# Altium schematic symbol library Symbol.SchLib: 38 symbols
Pins are listed as number, name and electrical type; pins without a type are passive.

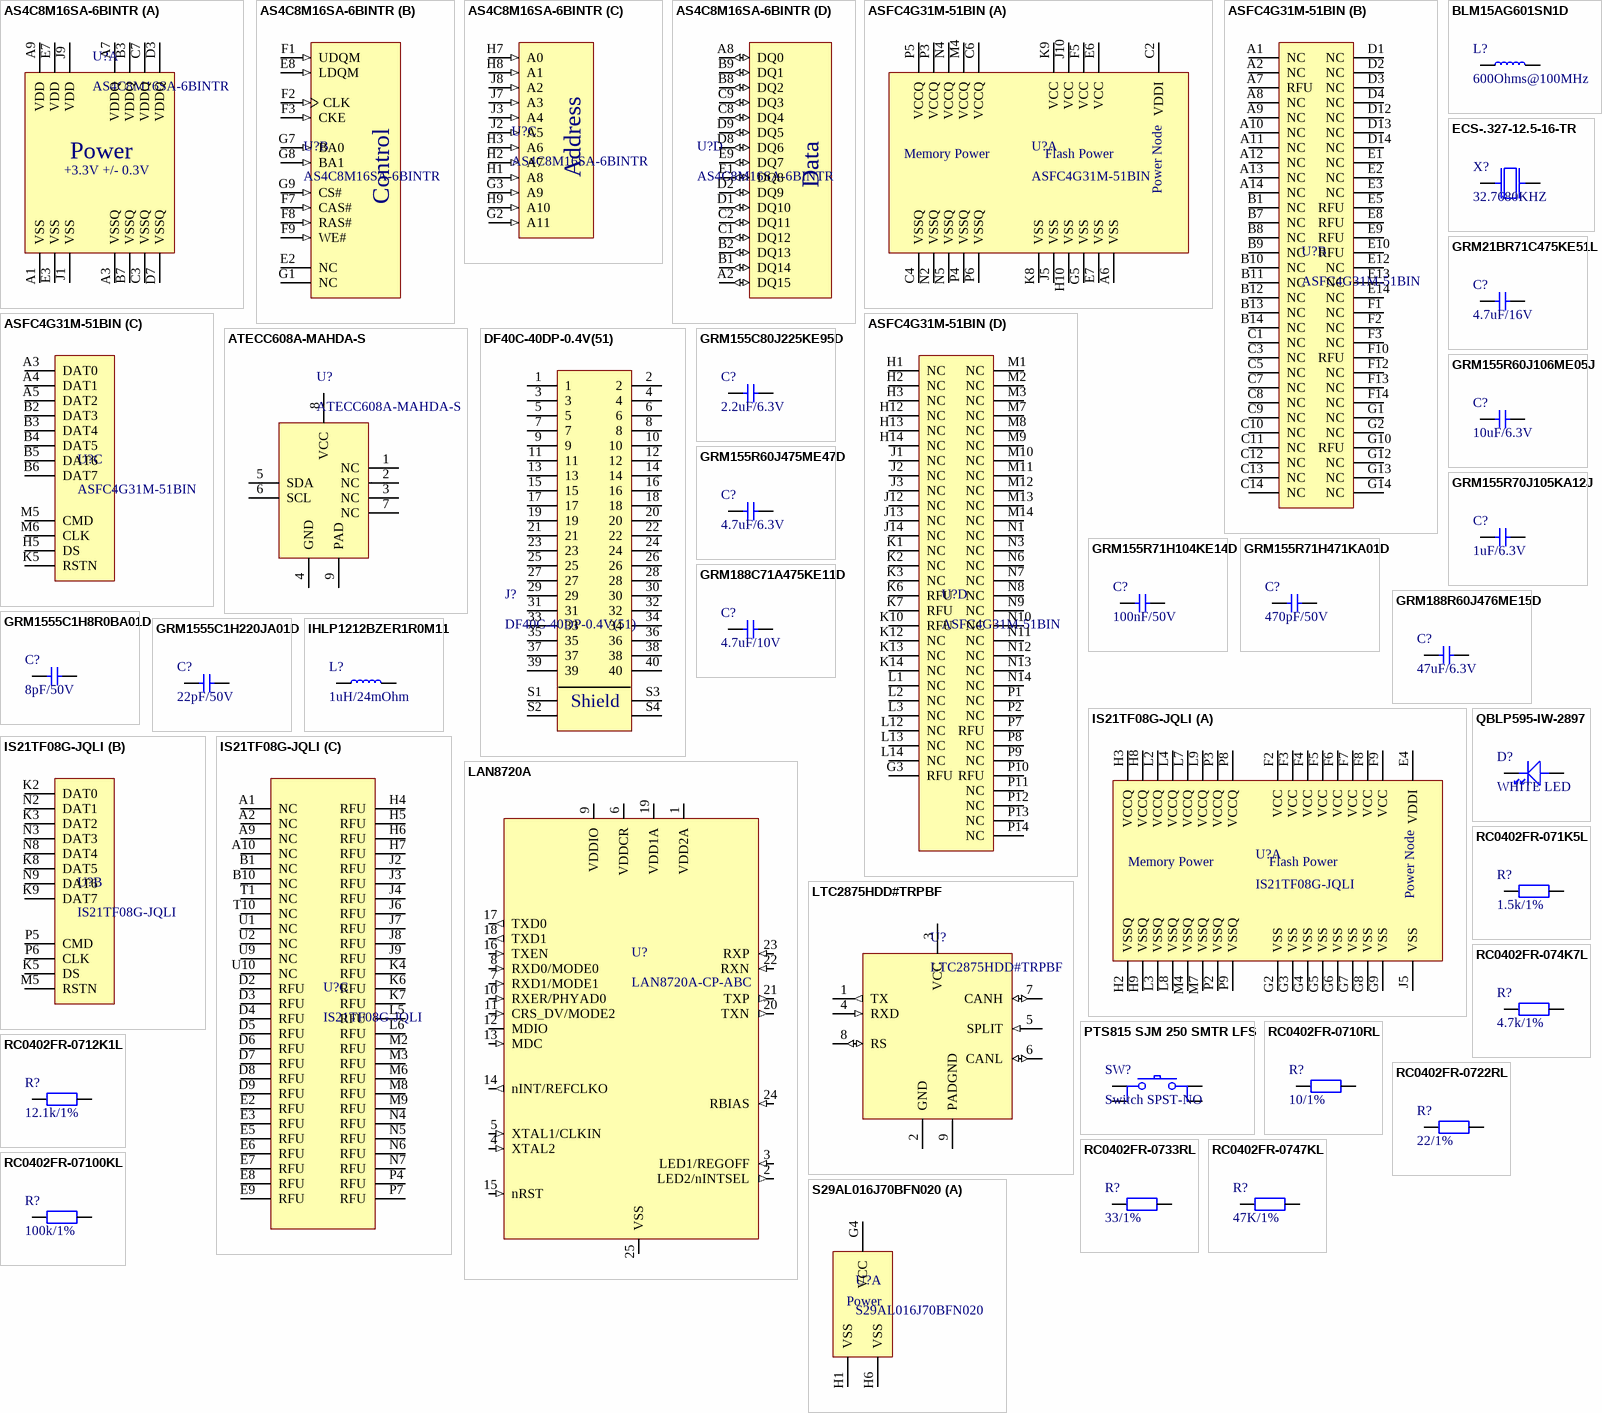
[diagram p0: symbols AS4C8M16SA-6BINTR to S29AL016J70BFN020]

## AS4C8M16SA-6BINTR
designator U?
SDRAM Memory IC 128Mbit Parallel 166 MHz 5 ns 54-TFBGA (8x8); MPN: AS4C8M16SA-6BINTR; ComponentLink1Description: Datasheet; ComponentLink1URL: https://www.alliancememory.com/wp-content/uploads/pdf/dram/128M-AS4C8M16SA.pdf
footprint TFBGA-54
part A pins: A1 VSS (power) "Power Supply Negative", A3 VSSQ (power) "DQ Power Negative", A7 VDDQ (power) "DQ Power Positive", A9 VDD (power) "Power Supply Positive", B3 VDDQ (power) "DQ Power Positive", B7 VSSQ (power) "DQ Power Negative", C3 VSSQ (power) "DQ Power Negative", C7 VDDQ (power) "DQ Power Positive", D3 VDDQ (power) "DQ Power Positive", D7 VSSQ (power) "DQ Power Negative", E3 VSS (power) "Power Supply Negative", E7 VDD (power) "Power Supply Positive", J1 VSS (power) "Power Supply Negative", J9 VDD (power) "Power Supply Positive"
part B pins: E2 NC, E8 LDQM (in) "Data input and output mask.", F1 UDQM (in) "Data input and output mask.", F2 CLK (in) "Clock for SDRAM. Positive edge sampled.", F3 CKE (in) "Activate and deactivate clock signal.", F7 CAS# (in) "Command input.", F8 RAS# (in) "Command input.", F9 WE# (in) "Command input.", G1 NC, G7 BA0 (in) "Bank activate.", G8 BA1 (in) "Bank activate", G9 CS# (in) "Chip select"
part C pins: G2 A11 (in) "Address selection", G3 A9 (in) "Address selection", H1 A8 (in) "Address selection", H2 A7 (in) "Address selection", H3 A6 (in) "Address selection", H7 A0 (in) "Address selection", H8 A1 (in) "Address selection", H9 A10 (in) "Address selection", J2 A5 (in) "Address selection", J3 A4 (in) "Address selection", J7 A3 (in) "Address selection", J8 A2 (in) "Address selection"
part D pins: A2 DQ15 (io) "Data", A8 DQ0 (io) "Data", B1 DQ14 (io) "Data", B2 DQ13 (io) "Data", B8 DQ2 (io) "Data", B9 DQ1 (io) "Data", C1 DQ12 (io) "Data", C2 DQ11 (io) "Data", C8 DQ4 (io) "Data", C9 DQ3 (io) "Data", D1 DQ10 (io) "Data", D2 DQ9 (io) "Data", D8 DQ6 (io) "Data", D9 DQ5 (io) "Data", E1 DQ8 (io) "Data", E9 DQ7 (io) "Data"
part A text: Power; +3.3V +/- 0.3V
part B text: Control
part C text: Address
part D text: Data

## ASFC4G31M-51BIN
designator U?
FLASH - NAND Memory IC 32Gbit MMC 200 MHz 153-FBGA (11.5x13); ComponentLink1Description: Datasheet; ComponentLink1URL: https://www.alliancememory.com/wp-content/uploads/pdf/eMMC/AllianceMemory_4GB_ASFC4G31M-51BIN_eMMCdatasheet_December2021_v1.0.pdf; MPN: ASFC4G31M-51BIN
footprint BGA54C50P14X14_1150X1300X100 (BGA, 54-Leads, Body 11.50x13.00mmx1.00mm, Pitch 0.50mm)
part A pins: A6 VSS (power) "Flash I/O and Memory Ground Connection", C2 VDDI (power) "Internal Power Node", C4 VSSQ (power) "Memory Controller and MMC I/F Ground Connection", C6 VCCQ (power) "Memory Controller and MMC I/F Power Connection", E6 VCC (power) "Flash I/O and Memory Power Supply", E7 VSS (power) "Flash I/O and Memory Ground Connection", F5 VCC (power) "Flash I/O and Memory Power Supply", G5 VSS (power) "Flash I/O and Memory Ground Connection", H10 VSS (power) "Flash I/O and Memory Ground Connection", J5 VSS (power) "Flash I/O and Memory Ground Connection", J10 VCC (power) "Flash I/O and Memory Power Supply", K8 VSS (power) "Flash I/O and Memory Ground Connection", K9 VCC (power) "Flash I/O and Memory Power Supply", M4 VCCQ (power) "Memory Controller and MMC I/F Power Connection", N2 VSSQ (power) "Memory Controller and MMC I/F Ground Connection", N4 VCCQ (power) "Memory Controller and MMC I/F Power Connection", N5 VSSQ (power) "Memory Controller and MMC I/F Ground Connection", P3 VCCQ (power) "Memory Controller and MMC I/F Power Connection", P4 VSSQ (power) "Memory Controller and MMC I/F Ground Connection", P5 VCCQ (power) "Memory Controller and MMC I/F Power Connection", P6 VSSQ (power) "Memory Controller and MMC I/F Ground Connection"
part B pins: A1 NC, A2 NC, A7 RFU, A8 NC, A9 NC, A10 NC, A11 NC, A12 NC, A13 NC, A14 NC, B1 NC, B7 NC, B8 NC, B9 NC, B10 NC, B11 NC, B12 NC, B13 NC, B14 NC, C1 NC, C3 NC, C5 NC, C7 NC, C8 NC, C9 NC, C10 NC, C11 NC, C12 NC, C13 NC, C14 NC, D1 NC, D2 NC, D3 NC, D4 NC, D12 NC, D13 NC, D14 NC, E1 NC, E2 NC, E3 NC, E5 RFU, E8 RFU, E9 RFU, E10 RFU, E12 NC, E13 NC, E14 NC, F1 NC, F2 NC, F3 NC, F10 RFU, F12 NC, F13 NC, F14 NC, G1 NC, G2 NC, G10 RFU, G12 NC, G13 NC, G14 NC
part C pins: A3 DAT0, A4 DAT1, A5 DAT2, B2 DAT3, B3 DAT4, B4 DAT5, B5 DAT6, B6 DAT7, H5 DS, K5 RSTN, M5 CMD, M6 CLK
part D pins: G3 RFU, H1 NC, H2 NC, H3 NC, H12 NC, H13 NC, H14 NC, J1 NC, J2 NC, J3 NC, J12 NC, J13 NC, J14 NC, K1 NC, K2 NC, K3 NC, K6 RFU, K7 RFU, K10 RFU, K12 NC, K13 NC, K14 NC, L1 NC, L2 NC, L3 NC, L12 NC, L13 NC, L14 NC, M1 NC, M2 NC, M3 NC, M7 NC, M8 NC, M9 NC, M10 NC, M11 NC, M12 NC, M13 NC, M14 NC, N1 NC, N3 NC, N6 NC, N7 NC, N8 NC, N9 NC, N10 NC, N11 NC, N12 NC, N13 NC, N14 NC, P1 NC, P2 NC, P7 RFU, P8 NC, P9 NC, P10 RFU, P11 NC, P12 NC, P13 NC, P14 NC
part A text: Memory Power; Flash Power; Power Node

## ATECC608A-MAHDA-S
designator U?
Authentication Chip 8-UDFN (2x3); MPN: ATECC608A-MAHDA-S; ComponentLink1Description: Datasheet; ComponentLink1URL: https://ww1.microchip.com/downloads/en/DeviceDoc/ATECC608A-CryptoAuthentication-Device-Summary-Data-Sheet-DS40001977B.pdf
footprint SON50P200X60_HS-9N (SON, 8-Leads, Body 3.00x2.00mm, Pitch 0.50mm, Thermal Pad 1.50x0.68mm, IPC Medium Density)
pins: 1 NC, 2 NC, 3 NC, 4 GND, 5 SDA, 6 SCL, 7 NC, 8 VCC, 9 PAD

## BLM15AG601SN1D
designator L?, comment 600Ohms@100MHz
600 Ohms @ 100 MHz 1 Ferrite Bead 0402 (1005 Metric) 300mA 520mOhm; MPN: BLM15AG601SN1D; ComponentLink1Description: Datasheet; ComponentLink1URL: https://www.murata.com/en-us/products/productdata/8796740059166/ENFA0018.pdf
footprint INDC1005X06M-0402 (Chip Inductor, 2-Leads, Body 1.00x0.50mm, IPC Low Density)
pins: 1, 2

## DF40C-40DP-0.4V(51)
designator J?
40 Position Connector Plug, Outer Shroud Contacts Surface Mount Gold; MPN: DF40C-40DP-0.4V(51); ComponentLink1Description: Datasheet; ComponentLink1URL: https://www.hirose.com/en/product/document?clcode=&productname=&series=DF40&documenttype=Catalog&lang=en&documentid=en_DF40_CAT
footprint DF40C-40DP-0.4V(51)
pins: 1, 2, 3, 4, 5, 6, 7, 8, 9, 10, 11, 12, 13, 14, 15, 16, 17, 18, 19, 20, 21, 22, 23, 24, 25, 26, 27, 28, 29, 30, 31, 32, 33, 34, 35, 36, 37, 38, 39, 40, S1, S2, S3, S4
text: Shield

## ECS-.327-12.5-16-TR
designator X?, comment 32.7680KHZ
32.768 kHz ±20ppm Crystal 12.5pF 90 kOhms 2-SMD, No Lead; MPN: ECS-.327-12.5-16-TR; ComponentLink1Description: Datasheet; ComponentLink1URL: https://ecsxtal.com/store/pdf/ECX-16.pdf
footprint 2-SMD
pins: 1, 2

## GRM21BR71C475KE51L
designator C?, comment 4.7uF/16V
4.7 µF ±10% 16V Ceramic Capacitor X7R 0805 (2012 Metric); MPN: GRM21BR71C475KE51L; ComponentLink1Description: Datasheet; ComponentLink1URL: https://search.murata.co.jp/Ceramy/image/img/A01X/G101/ENG/GRM21BR71C475KE51-01.pdf
footprint CAPC2012X14M (Chip Capacitor, 2-Leads, Body 2.00x1.25mm, IPC Low Density)
pins: 1, 2

## GRM155C80J225KE95D
designator C?, comment 2.2uF/6.3V
2.2 µF ±10% 6.3V Ceramic Capacitor X6S 0402 (1005 Metric); MPN: GRM155C80J225KE95D; ComponentLink1Description: Datasheet; ComponentLink1URL: https://search.murata.co.jp/Ceramy/image/img/A01X/G101/ENG/GRM155R60J475ME47-01.pdf
footprint CAPC1005X06M-0402 (Chip Capacitor, 2-Leads, Body 1.00x0.50mm, IPC Low Density)
pins: 1, 2

## GRM155R60J106ME05J
designator C?, comment 10uF/6.3V
10 µF ±20% 6.3V Ceramic Capacitor X5R 0402 (1005 Metric); MPN: GRM155R60J106ME05J; ComponentLink1Description: Datasheet; ComponentLink1URL: https://search.murata.co.jp/Ceramy/image/img/A01X/G101/ENG/GRM155R60J106ME05-01A.pdf
footprint CAPC1005X06M-0402 (Chip Capacitor, 2-Leads, Body 1.00x0.50mm, IPC Low Density)
pins: 1, 2

## GRM155R60J475ME47D
designator C?, comment 4.7uF/6.3V
4.7 µF ±20% 6.3V Ceramic Capacitor X5R 0402 (1005 Metric); MPN: GRM155R60J475ME47D; ComponentLink1Description: Datasheet; ComponentLink1URL: https://search.murata.co.jp/Ceramy/image/img/A01X/G101/ENG/GRM155R60J475ME47-01.pdf
footprint CAPC1005X06M-0402 (Chip Capacitor, 2-Leads, Body 1.00x0.50mm, IPC Low Density)
pins: 1, 2

## GRM155R70J105KA12J
designator C?, comment 1uF/6.3V
1 µF ±10% 6.3V Ceramic Capacitor X7R 0402 (1005 Metric); MPN: GRM155R70J105KA12J; ComponentLink1Description: Datasheet; ComponentLink1URL: https://search.murata.co.jp/Ceramy/image/img/A01X/G101/ENG/GRM155R60J475ME47-01.pdf
footprint CAPC1005X06M-0402 (Chip Capacitor, 2-Leads, Body 1.00x0.50mm, IPC Low Density)
pins: 1, 2

## GRM155R71H104KE14D
designator C?, comment 100nF/50V
0.1 µF ±10% 50V Ceramic Capacitor X7R 0402 (1005 Metric); MPN: GRM155R71H104KE14D; ComponentLink1Description: Datasheet; ComponentLink1URL: https://search.murata.co.jp/Ceramy/image/img/A01X/G101/ENG/GRM155R60J475ME47-01.pdf
footprint CAPC1005X06M-0402 (Chip Capacitor, 2-Leads, Body 1.00x0.50mm, IPC Low Density)
pins: 1, 2

## GRM155R71H471KA01D
designator C?, comment 470pF/50V
470 pF ±10% 50V Ceramic Capacitor X7R 0402 (1005 Metric); MPN: GRM155R71H471KA01D; ComponentLink1Description: Datasheet; ComponentLink1URL: https://search.murata.co.jp/Ceramy/image/img/A01X/G101/ENG/GRM155R60J475ME47-01.pdf
footprint CAPC1005X06M-0402 (Chip Capacitor, 2-Leads, Body 1.00x0.50mm, IPC Low Density)
pins: 1, 2

## GRM188C71A475KE11D
designator C?, comment 4.7uF/10V
4.7 µF ±10% 10V Ceramic Capacitor X7S 0603 (1608 Metric); MPN: GRM188C71A475KE11D; ComponentLink1Description: Datasheet; ComponentLink1URL: https://search.murata.co.jp/Ceramy/image/img/A01X/G101/ENG/GRM188R60J476ME15-01.pdf
footprint CAPC1608X10M-0603 (Chip Capacitor, 2-Leads, Body 1.60x0.80mm, IPC Low Density)
pins: 1, 2

## GRM188R60J476ME15D
designator C?, comment 47uF/6.3V
47 µF ±20% 6.3V Ceramic Capacitor X5R 0603 (1608 Metric); MPN: GRM188R60J476ME15D; ComponentLink1Description: Datasheet; ComponentLink1URL: https://search.murata.co.jp/Ceramy/image/img/A01X/G101/ENG/GRM188R60J476ME15-01.pdf
footprint CAPC1608X10M-0603 (Chip Capacitor, 2-Leads, Body 1.60x0.80mm, IPC Low Density)
pins: 1, 2

## GRM1555C1H8R0BA01D
designator C?, comment 8pF/50V
8 pF ±0.1pF 50V Ceramic Capacitor C0G, NP0 0402 (1005 Metric); MPN: GRM1555C1H8R0BA01D; ComponentLink1Description: Datasheet; ComponentLink1URL: https://search.murata.co.jp/Ceramy/image/img/A01X/G101/ENG/GRM155R60J475ME47-01.pdf
footprint CAPC1005X06M-0402 (Chip Capacitor, 2-Leads, Body 1.00x0.50mm, IPC Low Density)
pins: 1, 2

## GRM1555C1H220JA01D
designator C?, comment 22pF/50V
22 pF ±5% 50V Ceramic Capacitor C0G, NP0 0402 (1005 Metric); MPN: GRM1555C1H220JA01D; ComponentLink1Description: Datasheet; ComponentLink1URL: https://search.murata.co.jp/Ceramy/image/img/A01X/G101/ENG/GRM155R60J475ME47-01.pdf
footprint CAPC1005X06M-0402 (Chip Capacitor, 2-Leads, Body 1.00x0.50mm, IPC Low Density)
pins: 1, 2

## IHLP1212BZER1R0M11
designator L?, comment 1uH/24mOhm
1 µH Shielded Molded Inductor 5 A 24mOhm Max Nonstandard; MPN: IHLP1212BZER1R0M11; ComponentLink1Description: Datasheet; ComponentLink1URL: https://www.vishay.com/docs/34289/lp12bz11.pdf
footprint INDP3030X20M (Precision Wire Wound Inductor, 2-Leads, Body 3.00x3.00mm, IPC Low Density)
pins: 1, 2

## IS21TF08G-JQLI
designator U?
FLASH - NAND (TLC) Memory IC 64Gbit MMC 200 MHz 100-LFBGA (14x18); ComponentLink1Description: Datasheet; ComponentLink1URL: https://www.issi.com/WW/pdf/21-22TF08G.pdf; MPN: IS21TF08G-JQLI
footprint BGA180C100P10X18_1400X1400X140 (BGA, 180-Leads, Body 14.00x14.00mmx1.40mm, Pitch 1.00mm)
part A pins: E4 VDDI (power) "Internal Power Node", F2 VCC (power) "Flash I/O and Memory Power Supply", F3 VCC (power) "Flash I/O and Memory Power Supply", F4 VCC (power) "Flash I/O and Memory Power Supply", F5 VCC (power) "Flash I/O and Memory Power Supply", F6 VCC (power) "Flash I/O and Memory Power Supply", F7 VCC (power) "Flash I/O and Memory Power Supply", F8 VCC (power) "Flash I/O and Memory Power Supply", F9 VCC (power) "Flash I/O and Memory Power Supply", G2 VSS (power) "Flash I/O and Memory Ground Connection", G3 VSS (power) "Flash I/O and Memory Ground Connection", G4 VSS (power) "Flash I/O and Memory Ground Connection", G5 VSS (power) "Flash I/O and Memory Ground Connection", G6 VSS (power) "Flash I/O and Memory Ground Connection", G7 VSS (power) "Flash I/O and Memory Ground Connection", G8 VSS (power) "Flash I/O and Memory Ground Connection", G9 VSS (power) "Flash I/O and Memory Ground Connection", H2 VSSQ (power) "Memory Controller and MMC I/F Ground Connection", H3 VCCQ (power) "Memory Controller and MMC I/F Power Connection", H8 VCCQ (power) "Memory Controller and MMC I/F Power Connection", H9 VSSQ (power) "Memory Controller and MMC I/F Ground Connection", J5 VSS (power) "Flash I/O and Memory Ground Connection", L2 VCCQ (power) "Memory Controller and MMC I/F Power Connection", L3 VSSQ (power) "Memory Controller and MMC I/F Ground Connection", L4 VCCQ (power) "Memory Controller and MMC I/F Power Connection", L7 VCCQ (power) "Memory Controller and MMC I/F Power Connection", L8 VSSQ (power) "Memory Controller and MMC I/F Ground Connection", L9 VCCQ (power) "Memory Controller and MMC I/F Power Connection", M4 VSSQ (power) "Memory Controller and MMC I/F Ground Connection", M7 VSSQ (power) "Memory Controller and MMC I/F Ground Connection", P2 VSSQ (power) "Memory Controller and MMC I/F Ground Connection", P3 VCCQ (power) "Memory Controller and MMC I/F Power Connection", P8 VCCQ (power) "Memory Controller and MMC I/F Power Connection", P9 VSSQ (power) "Memory Controller and MMC I/F Ground Connection"
part B pins: K2 DAT0, K3 DAT2, K5 DS, K8 DAT5, K9 DAT7, M5 RSTN, N2 DAT1, N3 DAT3, N8 DAT4, N9 DAT6, P5 CMD, P6 CLK
part C pins: A1 NC, A2 NC, A9 NC, A10 NC, B1 NC, B10 NC, D2 RFU, D3 RFU, D4 RFU, D5 RFU, D6 RFU, D7 RFU, D8 RFU, D9 RFU, E2 RFU, E3 RFU, E5 RFU, E6 RFU, E7 RFU, E8 RFU, E9 RFU, H4 RFU, H5 RFU, H6 RFU, H7 RFU, J2 RFU, J3 RFU, J4 RFU, J6 RFU, J7 RFU, J8 RFU, J9 RFU, K4 RFU, K6 RFU, K7 RFU, L5 RFU, L6 RFU, M2 RFU, M3 RFU, M6 RFU, M8 RFU, M9 RFU, N4 RFU, N5 RFU, N6 RFU, N7 RFU, P4 RFU, P7 RFU, T1 NC, T10 NC, U1 NC, U2 NC, U9 NC, U10 NC
part A text: Memory Power; Flash Power; Power Node

## LAN8720A
designator U?, comment LAN8720A-CP-ABC
2/2 Transceiver Full RMII 24-SQFN (4x4); MPN: LAN8720A-CP-ABC; ComponentLink1Description: Datasheet; ComponentLink1URL: https://ww1.microchip.com/downloads/aemDocuments/documents/OTH/ProductDocuments/DataSheets/00002165B.pdf
footprint QFN24P50_40X40X85L40X25
pins: 1 VDD2A (power), 2 LED2/nINTSEL (out), 3 LED1/REGOFF (in), 4 XTAL2 (in), 5 XTAL1/CLKIN (in), 6 VDDCR (power), 7 RXD1/MODE1 (in), 8 RXD0/MODE0 (in), 9 VDDIO (power), 10 RXER/PHYAD0 (in), 11 CRS_DV/MODE2 (in), 12 MDIO (io), 13 MDC (in), 14 nINT/REFCLKO (out), 15 nRST (in), 16 TXEN (in), 17 TXD0 (out), 18 TXD1 (out), 19 VDD1A (power), 20 TXN (out), 21 TXP (out), 22 RXN (in), 23 RXP (in), 24 RBIAS (in), 25 VSS (power)

## LTC2875HDD#TRPBF
designator U?
1/1 Transceiver CANbus 8-DFN (3x3); MPN: LTC2875HDD#TRPBF; ComponentLink1Description: Datasheet; ComponentLink1URL: https://www.analog.com/media/en/technical-documentation/data-sheets/LTC2875.pdf
footprint DFN-8
pins: 1 TX (out), 2 GND (power), 3 VCC (power), 4 RXD (in), 5 SPLIT (in), 6 CANL (io), 7 CANH (io), 8 RS (io), 9 PADGND (power)

## PTS815 SJM 250 SMTR LFS
designator SW?, comment Switch SPST-NO
Tactile Switch SPST-NO Top Actuated Surface Mount; MPN: PTS815 SJM 250 SMTR LFS; ComponentLink1Description: Datasheet; ComponentLink1URL: https://www.ckswitches.com/media/2728/pts815.pdf
footprint PTS815 SJM 250 SMTR LFS
pins: 1, 2, 3, 4

## QBLP595-IW-2897
designator D?, comment WHITE LED
White LED Indication - Discrete 3.1V 0402 (1005 Metric); MPN: QBLP595-IW-2897; ComponentLink1Description: Datasheet; ComponentLink1URL: https://www.qt-brightek.com/datasheet/QBLP595-IW-2897.pdf
footprint LED-0402
pins: 1, 2

## RC0402FR-071K5L
designator R?, comment 1.5k/1%
1.5 kOhms ±1% 0.063W, 1/16W Chip Resistor 0402 (1005 Metric) Moisture Resistant Thick Film; MPN: RC0402FR-071K5L; ComponentLink1Description: Datasheet; ComponentLink1URL: https://www.yageo.com/upload/media/product/productsearch/datasheet/rchip/PYu-RC_Group_51_RoHS_L_12.pdf
footprint RESC1005X04M-0402 (Chip Resistor, 2-Leads, Body 1.00x0.50mm, IPC Low Density)
pins: 1, 2

## RC0402FR-074K7L
designator R?, comment 4.7k/1%
4.7 kOhms ±1% 0.063W, 1/16W Chip Resistor 0402 (1005 Metric) Moisture Resistant Thick Film; MPN: RC0402FR-074K7L; ComponentLink1Description: Datasheet; ComponentLink1URL: https://www.yageo.com/upload/media/product/productsearch/datasheet/rchip/PYu-RC_Group_51_RoHS_L_12.pdf
footprint RESC1005X04M-0402 (Chip Resistor, 2-Leads, Body 1.00x0.50mm, IPC Low Density)
pins: 1, 2

## RC0402FR-0710RL
designator R?, comment 10/1%
10 Ohms ±1% 0.063W, 1/16W Chip Resistor 0402 (1005 Metric) Moisture Resistant Thick Film; MPN: RC0402FR-0710RL; ComponentLink1Description: Datasheet; ComponentLink1URL: https://www.yageo.com/upload/media/product/productsearch/datasheet/rchip/PYu-RC_Group_51_RoHS_L_12.pdf
footprint RESC1005X04M-0402 (Chip Resistor, 2-Leads, Body 1.00x0.50mm, IPC Low Density)
pins: 1, 2

## RC0402FR-0712K1L
designator R?, comment 12.1k/1%
12.1 kOhms ±1% 0.063W, 1/16W Chip Resistor 0402 (1005 Metric) Moisture Resistant Thick Film; MPN: RC0402FR-0712K1L; ComponentLink1Description: Datasheet; ComponentLink1URL: https://www.yageo.com/upload/media/product/productsearch/datasheet/rchip/PYu-RC_Group_51_RoHS_L_12.pdf
footprint RESC1005X04M-0402 (Chip Resistor, 2-Leads, Body 1.00x0.50mm, IPC Low Density)
pins: 1, 2

## RC0402FR-0722RL
designator R?, comment 22/1%
22 Ohms ±1% 0.063W, 1/16W Chip Resistor 0402 (1005 Metric) Moisture Resistant Thick Film; MPN: RC0402FR-0722RL; ComponentLink1Description: Datasheet; ComponentLink1URL: https://www.yageo.com/upload/media/product/productsearch/datasheet/rchip/PYu-RC_Group_51_RoHS_L_12.pdf
footprint RESC1005X04M-0402 (Chip Resistor, 2-Leads, Body 1.00x0.50mm, IPC Low Density)
pins: 1, 2

## RC0402FR-0733RL
designator R?, comment 33/1%
33 Ohms ±1% 0.063W, 1/16W Chip Resistor 0402 (1005 Metric) Moisture Resistant Thick Film; MPN: RC0402FR-0733RL; ComponentLink1Description: Datasheet; ComponentLink1URL: https://www.yageo.com/upload/media/product/productsearch/datasheet/rchip/PYu-RC_Group_51_RoHS_L_12.pdf
footprint RESC1005X04M-0402 (Chip Resistor, 2-Leads, Body 1.00x0.50mm, IPC Low Density)
pins: 1, 2

## RC0402FR-0747KL
designator R?, comment 47K/1%
47 kOhms ±1% 0.063W, 1/16W Chip Resistor 0402 (1005 Metric) Moisture Resistant Thick Film; MPN: RC0402FR-0747KL; ComponentLink1Description: Datasheet; ComponentLink1URL: https://www.yageo.com/upload/media/product/productsearch/datasheet/rchip/PYu-RC_Group_51_RoHS_L_12.pdf
footprint RESC1005X04M-0402 (Chip Resistor, 2-Leads, Body 1.00x0.50mm, IPC Low Density)
pins: 1, 2

## RC0402FR-07100KL
designator R?, comment 100k/1%
100 kOhms ±1% 0.063W, 1/16W Chip Resistor 0402 (1005 Metric) Moisture Resistant Thick Film; MPN: RC0402FR-07100KL; ComponentLink1Description: Datasheet; ComponentLink1URL: https://www.yageo.com/upload/media/product/productsearch/datasheet/rchip/PYu-RC_Group_51_RoHS_L_12.pdf
footprint RESC1005X04M-0402 (Chip Resistor, 2-Leads, Body 1.00x0.50mm, IPC Low Density)
pins: 1, 2

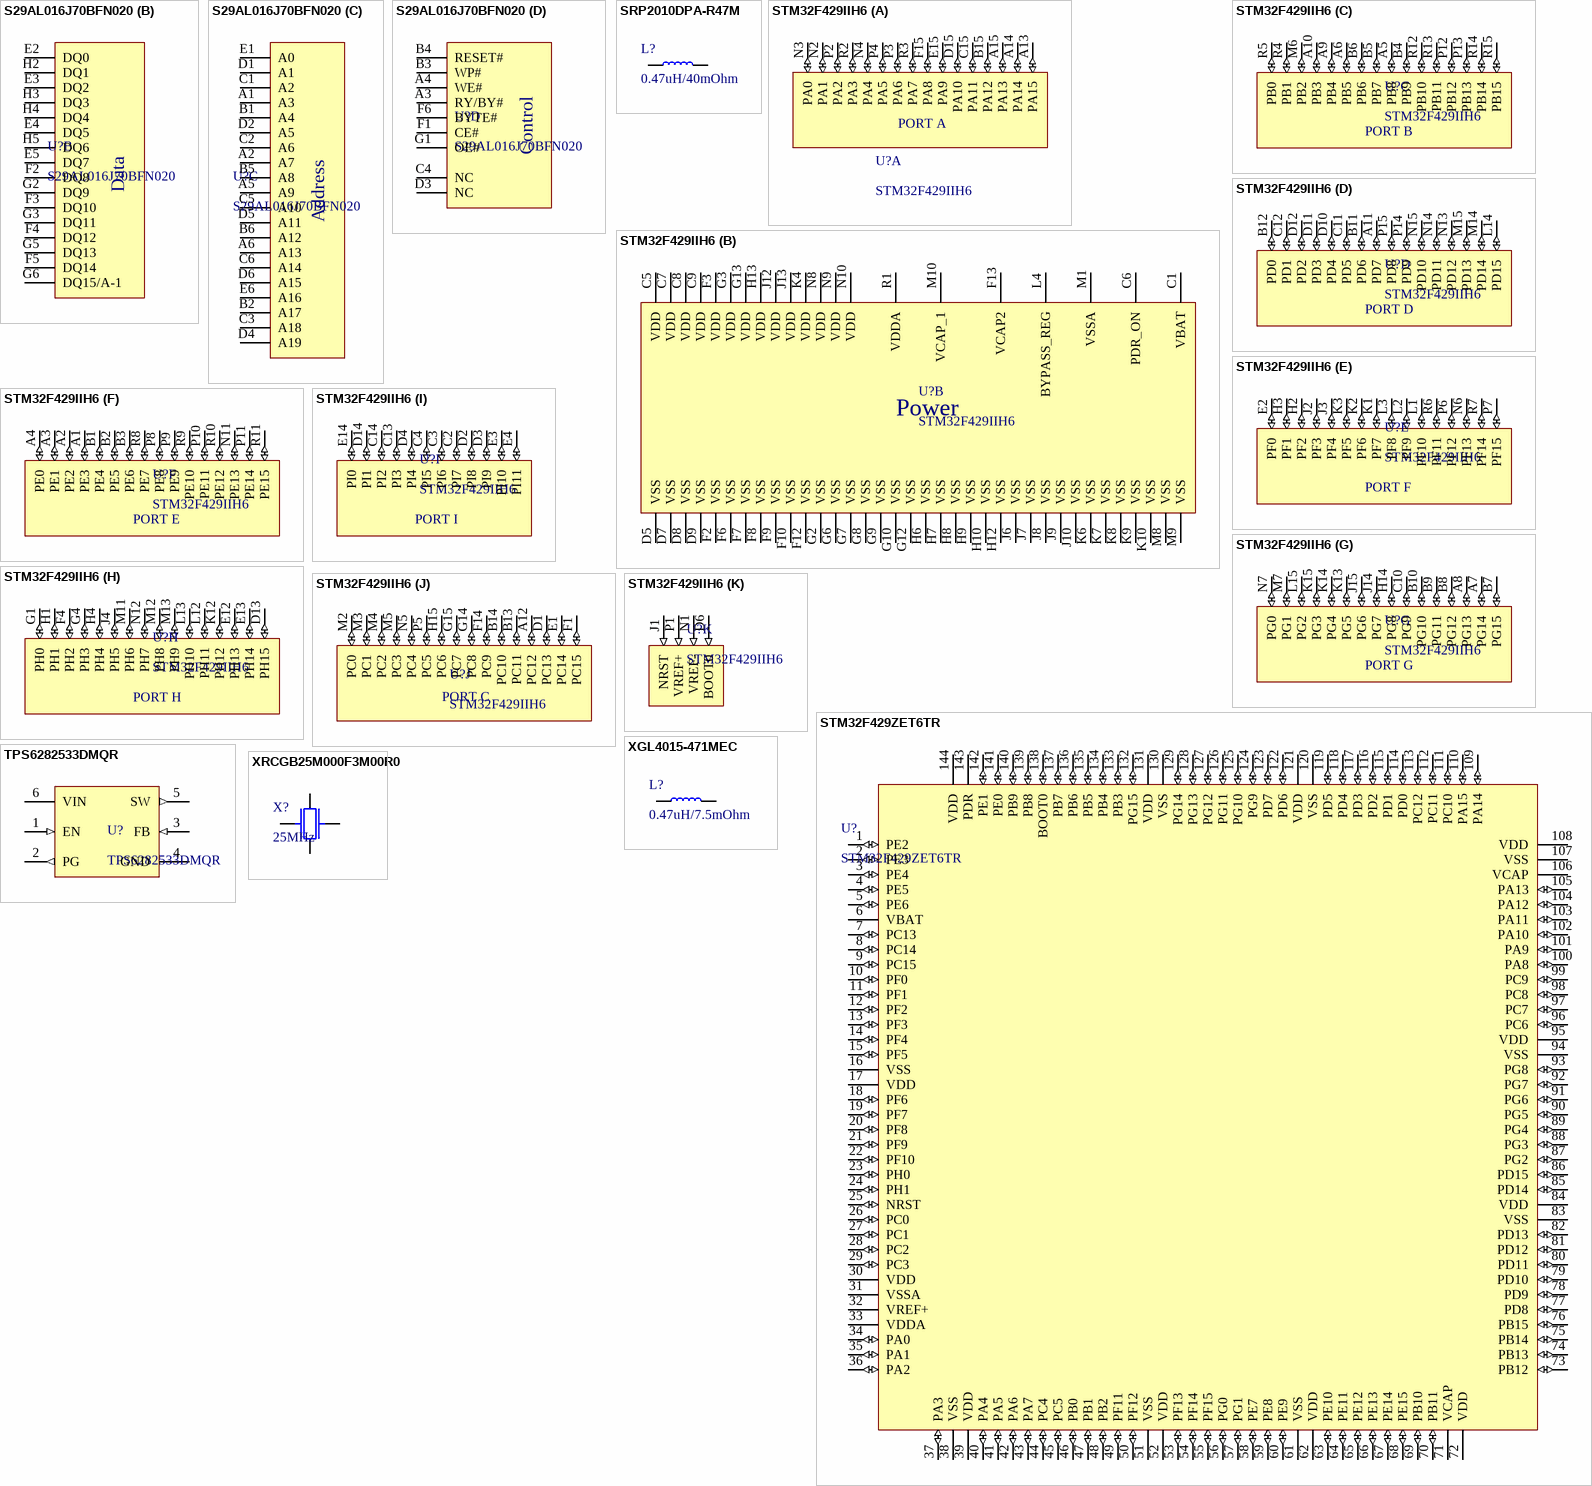
[diagram p1: symbols S29AL016J70BFN020 to XRCGB25M000F3M00R0]

## S29AL016J70BFN020
designator U?
FLASH - NOR Memory IC 16Mbit Parallel 70 ns 48-FBGA (8.15x6.15); MPN: S29AL016J70BFN020; ComponentLink1Description: Datasheet; ComponentLink1URL: https://www.infineon.com/dgdl/Infineon-S29AL016J_16_MBIT_(2M_X_8_BIT_1M_X_16_BIT)_3_V_BOOT_SECTOR_FLASH-DataSheet-v18_00-EN.pdf?fileId=8ac78c8c7d0d8da4017d0ed709c05803
footprint BGA48C80P6X8_615X815X100 (BGA, 48-Leads, Body 6.15x8.15mmx1.00mm, Pitch 0.80mm)
part A pins: G4 VCC, H1 VSS, H6 VSS
part B pins: E2 DQ0, E3 DQ2, E4 DQ5, E5 DQ7, F2 DQ8, F3 DQ10, F4 DQ12, F5 DQ14, G2 DQ9, G3 DQ11, G5 DQ13, G6 DQ15/A-1, H2 DQ1, H3 DQ3, H4 DQ4, H5 DQ6
part C pins: A1 A3, A2 A7, A5 A9, A6 A13, B1 A4, B2 A17, B5 A8, B6 A12, C1 A2, C2 A6, C3 A18, C5 A10, C6 A14, D1 A1, D2 A5, D4 A19, D5 A11, D6 A15, E1 A0, E6 A16
part D pins: A3 RY/BY#, A4 WE#, B3 WP#, B4 RESET#, C4 NC, D3 NC, F1 CE#, F6 BYTE#, G1 OE#
part A text: Power
part B text: Data
part C text: Address
part D text: Control

## SRP2010DPA-R47M
designator L?, comment 0.47uH/40mOhm
470 nH Shielded Inductor 3.6 A 40mOhm Max 0806 (2016 Metric); MPN: SRP2010DPA-R47M; ComponentLink1Description: Datasheet; ComponentLink1URL: https://media.digikey.com/pdf/Data%20Sheets/Bourns%20PDFs/SRP2010DPA_Series_DS.pdf
footprint INDC200x160-2016
pins: 1, 2

## STM32F429IIH6
designator U?
ARM Microcontrollers - MCU DSP FPU ARM CortexM4 2Mb Flash 180MHz; ComponentLink1Description: Datasheet; ComponentLink1URL: https://eu.mouser.com/datasheet/2/389/stm32f427vg-1760963.pdf; MPN: STM32F429IIH6
footprint BGA201C65P15X15_1000X1000X60
part A pins: A13 PA15 (io), A14 PA14 (io), A15 PA13 (io), B15 PA12 (io), C15 PA11 (io), D15 PA10 (io), E15 PA9 (io), F15 PA8 (io), N2 PA1 (io), N3 PA0 (io), N4 PA4 (io), P2 PA2 (io), P3 PA6 (io), P4 PA5 (io), R2 PA3 (io), R3 PA7 (io)
part B pins: C1 VBAT (power), C5 VDD (power), C6 PDR_ON (power), C7 VDD (power), C8 VDD (power), C9 VDD (power), D5 VSS (power), D7 VSS (power), D8 VSS (power), D9 VSS (power), F2 VSS (power), F3 VDD (power), F6 VSS (power), F7 VSS (power), F8 VSS (power), F9 VSS (power), F10 VSS (power), F12 VSS (power), F13 VCAP2 (power), G2 VSS (power), G3 VDD (power), G6 VSS (power), G7 VSS (power), G8 VSS (power), G9 VSS (power), G10 VSS (power), G12 VSS (power), G13 VDD (power), H6 VSS (power), H7 VSS (power), H8 VSS (power), H9 VSS (power), H10 VSS (power), H12 VSS (power), H13 VDD (power), J6 VSS (power), J7 VSS (power), J8 VSS (power), J9 VSS (power), J10 VSS (power), J12 VDD (power), J13 VDD (power), K4 VDD (power), K6 VSS (power), K7 VSS (power), K8 VSS (power), K9 VSS (power), K10 VSS (power), L4 BYPASS_REG (power), M1 VSSA (power), M8 VSS (power), M9 VSS (power), M10 VCAP_1 (power), N8 VDD (power), N9 VDD (power), N10 VDD (power), R1 VDDA (power)
part C pins: A5 PB8 (io), A6 PB5 (io), A9 PB4 (io), A10 PB3 (io), B4 PB9 (io), B5 PB7 (io), B6 PB6 (io), M6 PB2 (io), P12 PB12 (io), P13 PB13 (io), R4 PB1 (io), R5 PB0 (io), R12 PB10 (io), R13 PB11 (io), R14 PB14 (io), R15 PB15 (io)
part D pins: A11 PD7 (io), B11 PD6 (io), B12 PD0 (io), C11 PD5 (io), C12 PD1 (io), D10 PD4 (io), D11 PD3 (io), D12 PD2 (io), L14 PD15 (io), M14 PD14 (io), M15 PD13 (io), N13 PD12 (io), N14 PD11 (io), N15 PD10 (io), P14 PD9 (io), P15 PD8 (io)
part E pins: E2 PF0 (io), H2 PF2 (io), H3 PF1 (io), J2 PF3 (io), J3 PF4 (io), K1 PF7 (io), K2 PF6 (io), K3 PF5 (io), L1 PF10 (io), L2 PF9 (io), L3 PF8 (io), N6 PF13 (io), P6 PF12 (io), P7 PF15 (io), R6 PF11 (io), R7 PF14 (io)
part F pins: A1 PE3 (io), A2 PE2 (io), A3 PE1 (io), A4 PE0 (io), B1 PE4 (io), B2 PE5 (io), B3 PE6 (io), N11 PE13 (io), P8 PE8 (io), P9 PE9 (io), P10 PE11 (io), P11 PE14 (io), R8 PE7 (io), R9 PE10 (io), R10 PE12 (io), R11 PE15 (io)
part G pins: A7 PG14 (io), A8 PG13 (io), B7 PG15 (io), B8 PG12 (io), B9 PG11 (io), B10 PG10 (io), C10 PG9 (io), H14 PG8 (io), J14 PG7 (io), J15 PG6 (io), K13 PG5 (io), K14 PG4 (io), K15 PG3 (io), L15 PG2 (io), M7 PG1 (io), N7 PG0 (io)
part H pins: D13 PH15 (io), E12 PH13 (io), E13 PH14 (io), F4 PH2 (io), G1 PH0 (io), G4 PH3 (io), H1 PH1 (io), H4 PH4 (io), J4 PH5 (io), K12 PH12 (io), L12 PH11 (io), L13 PH10 (io), M11 PH6 (io), M12 PH8 (io), M13 PH9 (io), N12 PH7 (io)
part I pins: C2 PI7 (io), C3 PI6 (io), C4 PI5 (io), C13 PI3 (io), C14 PI2 (io), D2 PI8 (io), D3 PI9 (io), D4 PI4 (io), D14 PI1 (io), E3 PI10 (io), E4 PI11 (io), E14 PI0 (io)
part J pins: A12 PC12 (io), B13 PC11 (io), B14 PC10 (io), D1 PC13 (io), E1 PC14 (io), F1 PC15 (io), F14 PC9 (io), G14 PC8 (io), G15 PC7 (io), H15 PC6 (io), M2 PC0 (io), M3 PC1 (io), M4 PC2 (io), M5 PC3 (io), N5 PC4 (io), P5 PC5 (io)
part K pins: D6 BOOT0 (in), J1 NRST (in), N1 VREF- (in), P1 VREF+ (in)
part A text: PORT A
part B text: Power
part C text: PORT B
part D text: PORT D
part E text: PORT F
part F text: PORT E
part G text: PORT G
part H text: PORT H
part I text: PORT I
part J text: PORT C

## STM32F429ZET6TR
designator U?
ARM® Cortex®-M4 STM32F4 Microcontroller IC 32-Bit Single-Core 180MHz 512KB (512K x 8) FLASH 144-LQFP (20x20); MPN: STM32F429ZET6TR; ComponentLink1Description: New link; ComponentLink1URL: https://www.st.com/content/ccc/resource/technical/document/datasheet/03/b4/b2/36/4c/72/49/29/DM00071990.pdf/files/DM00071990.pdf/jcr:content/translations/en.DM00071990.pdf
footprint TSQFP50P2200X2200X160-144N (TSQFP, 144-Leads, Body 20.00x20.00mm, Pitch 0.50mm, IPC Medium Density)
pins: 1 PE2 (io), 2 PE3 (io), 3 PE4 (io), 4 PE5 (io), 5 PE6 (io), 6 VBAT (power), 7 PC13 (io), 8 PC14 (io), 9 PC15 (io), 10 PF0 (io), 11 PF1 (io), 12 PF2 (io), 13 PF3 (io), 14 PF4 (io), 15 PF5 (io), 16 VSS (power), 17 VDD (power), 18 PF6 (io), 19 PF7 (io), 20 PF8 (io), 21 PF9 (io), 22 PF10 (io), 23 PH0 (io), 24 PH1 (io), 25 NRST (io), 26 PC0 (io), 27 PC1 (io), 28 PC2 (io), 29 PC3 (io), 30 VDD (power), 31 VSSA (power), 32 VREF+ (power), 33 VDDA (power), 34 PA0 (io), 35 PA1 (io), 36 PA2 (io), 37 PA3 (io), 38 VSS (power), 39 VDD (power), 40 PA4 (io), 41 PA5 (io), 42 PA6 (io), 43 PA7 (io), 44 PC4 (io), 45 PC5 (io), 46 PB0 (io), 47 PB1 (io), 48 PB2 (io), 49 PF11 (io), 50 PF12 (io), 51 VSS (power), 52 VDD (power), 53 PF13 (io), 54 PF14 (io), 55 PF15 (io), 56 PG0 (io), 57 PG1 (io), 58 PE7 (io), 59 PE8 (io), 60 PE9 (io), 61 VSS (power), 62 VDD (power), 63 PE10 (io), 64 PE11 (io), 65 PE12 (io), 66 PE13 (io), 67 PE14 (io), 68 PE15 (io), 69 PB10 (io), 70 PB11 (io), 71 VCAP (power), 72 VDD (power), 73 PB12 (io), 74 PB13 (io), 75 PB14 (io), 76 PB15 (io), 77 PD8 (io), 78 PD9 (io), 79 PD10 (io), 80 PD11 (io), 81 PD12 (io), 82 PD13 (io), 83 VSS (power), 84 VDD (power), 85 PD14 (io), 86 PD15 (io), 87 PG2 (io), 88 PG3 (io), 89 PG4 (io), 90 PG5 (io), 91 PG6 (io), 92 PG7 (io), 93 PG8 (io), 94 VSS (power), 95 VDD (power), 96 PC6 (io), 97 PC7 (io), 98 PC8 (io), 99 PC9 (io), 100 PA8 (io), 101 PA9 (io), 102 PA10 (io), 103 PA11 (io), 104 PA12 (io), 105 PA13 (io), 106 VCAP (power), 107 VSS (power), 108 VDD (power), 109 PA14 (io), 110 PA15 (io), 111 PC10 (io), 112 PC11 (io), 113 PC12 (io), 114 PD0 (io), 115 PD1 (io), 116 PD2 (io), 117 PD3 (io), 118 PD4 (io), 119 PD5 (io), 120 VSS (power), 121 VDD (power), 122 PD6 (io), 123 PD7 (io), 124 PG9 (io), 125 PG10 (io), 126 PG11 (io), 127 PG12 (io), 128 PG13 (io), 129 PG14 (io), 130 VSS (power), 131 VDD (power), 132 PG15 (io), 133 PB3 (io), 134 PB4 (io), 135 PB5 (io), 136 PB6 (io), 137 PB7 (io), 138 BOOT0 (io), 139 PB8 (io), 140 PB9 (io), 141 PE0 (io), 142 PE1 (io), 143 PDR (power), 144 VDD (power)

## TPS6282533DMQR
designator U?
Buck Switching Regulator IC Positive Fixed 3.3V 1 Output 2A 6-VFDFN; ComponentLink1Description: Datasheet; ComponentLink1URL: https://www.ti.com/lit/ds/symlink/tps62825.pdf; MPN: TPS6282533DMQR
footprint VSON-HR (DMQ)
pins: 1 EN (in), 2 PG (out), 3 FB (in), 4 GND (power), 5 SW (out), 6 VIN (power)

## XGL4015-471MEC
designator L?, comment 0.47uH/7.5mOhm
470 nH Shielded Molded Inductor 9.6 A 7.5mOhm Max 1616 (4040 Metric); MPN: XGL4015-471MEC; ComponentLink1Description: Datasheet; ComponentLink1URL: https://www.coilcraft.com/en-us/files/datasheet/XGL4015
footprint XGL4015-471MEC
pins: 1, 2

## XRCGB25M000F3M00R0
designator X?, comment 25MHz
25 MHz ±30ppm Crystal 6pF 150 Ohms 4-SMD, No Lead; MPN: XRCGB25M000F3M00R0; ComponentLink1Description: Datasheet; ComponentLink1URL: https://www.murata.com/~/media/webrenewal/campaign/ads/america/timing/p79e.ashx?la=en-us
footprint 4-SMD
pins: 1, 2, 3, 4